# EAGLE library part SI8234 (library charleses_parts_bin)
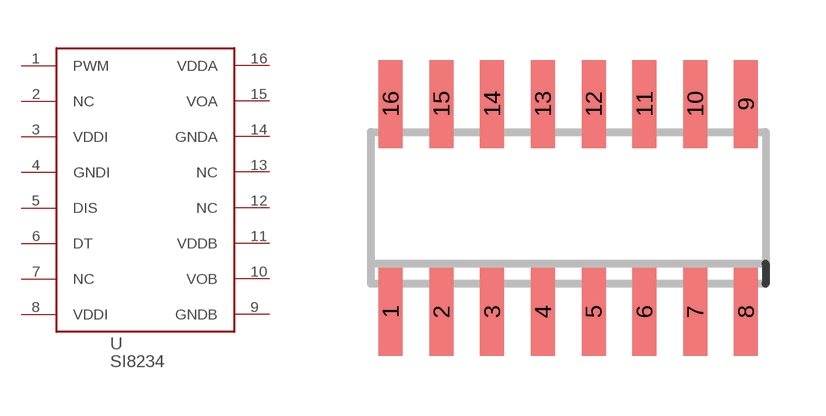
[diagram p6: symbol with the pads of SOIC16N; footprint SOIC16N]

Designator prefix -

## SI8234SOIC  [SOIC16N]
1  PWM  pas
2  NC  nc
3  VDDI  pas
4  GNDI  pas
5  DIS  pas
6  DT  pas
7  NC  nc
8  VDDI  pas
9  GNDB  pas
10  VOB  pas
11  VDDB  pas
12  NC  nc
13  NC  nc
14  GNDA  pas
15  VOA  pas
16  VDDA  pas

## Footprint SOIC16N (pad centres in mm)
Narrow SOIC16
smd 0.6 x 2.2: 1 -6.985,-3.87; 2 -5.715,-3.87; 3 -4.445,-3.87; 4 -3.175,-3.87; 5 -1.905,-3.87; 6 -0.635,-3.87; 7 0.635,-3.87; 8 1.905,-3.87; 9 1.905,1.33; 10 0.635,1.33; 11 -0.635,1.33; 12 -1.905,1.33; 13 -3.175,1.33; 14 -4.445,1.33; 15 -5.715,1.33; 16 -6.985,1.33